# EAGLE library part MAX2661 (library rfops)
Maxim Upconverter MAX2661
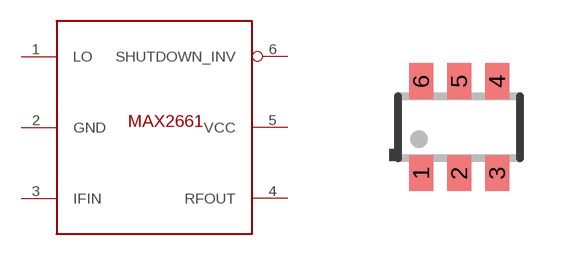
[diagram p18: symbol with the pads of SOT23-6; footprint SOT23-6]

Designator prefix UP

## MAX2661  [SOT23-6]
1  LO  in
2  GND  pwr
3  IFIN  in
4  RFOUT  out
5  VCC  pwr
6  SHUTDOWN_INV  in

## Footprint SOT23-6 (pad centres in mm)
SOT23-6 Package
smd 0.6 x 0.9: 1 -0.95,-1.15; 2 0,-1.15; 3 0.95,-1.15; 4 0.95,1.15; 5 0,1.15; 6 -0.95,1.15